# EAGLE library part GEC15DABN-M30 (library con-sullins)
HEADER - Vertical
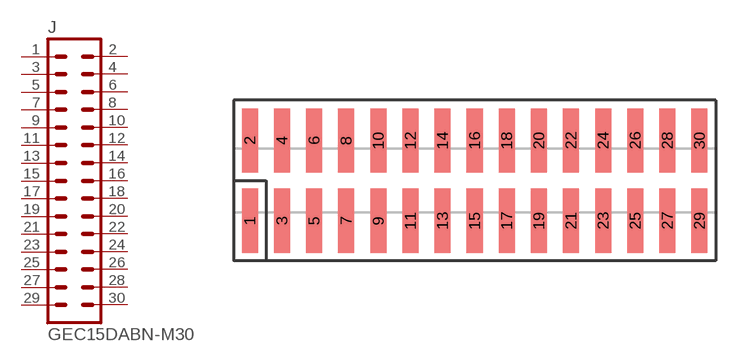
[diagram p11: symbol with the pads of GXC15; footprint GXC15]

Designator prefix J

## GEC15DABN-M30  [GXC15]
1  1  pas
2  2  pas
3  3  pas
4  4  pas
5  5  pas
6  6  pas
7  7  pas
8  8  pas
9  9  pas
10  10  pas
11  11  pas
12  12  pas
13  13  pas
14  14  pas
15  15  pas
16  16  pas
17  17  pas
18  18  pas
19  19  pas
20  20  pas
21  21  pas
22  22  pas
23  23  pas
24  24  pas
25  25  pas
26  26  pas
27  27  pas
28  28  pas
29  29  pas
30  30  pas

## Footprint GXC15 (pad centres in mm)
SMD HEADER - 0.1", Vertical
smd 1.27 x 5.08: 1 -17.78,-3.175; 2 -17.78,3.175; 3 -15.24,-3.175; 4 -15.24,3.175; 5 -12.7,-3.175; 6 -12.7,3.175; 7 -10.16,-3.175; 8 -10.16,3.175; 9 -7.62,-3.175; 10 -7.62,3.175; 11 -5.08,-3.175; 12 -5.08,3.175; 13 -2.54,-3.175; 14 -2.54,3.175; 15 0,-3.175; 16 0,3.175; 17 2.54,-3.175; 18 2.54,3.175; 19 5.08,-3.175; 20 5.08,3.175; 21 7.62,-3.175; 22 7.62,3.175; 23 10.16,-3.175; 24 10.16,3.175; 25 12.7,-3.175; 26 12.7,3.175; 27 15.24,-3.175; 28 15.24,3.175; 29 17.78,-3.175; 30 17.78,3.175